# Altium schematic symbol library SCH - POWER - LINEAR VREG - TI LP2980-ADJDBV.SchLib: 1 symbol
Pins are listed as number, name and electrical type; pins without a type are passive.

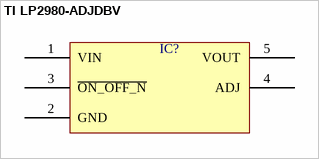
[diagram p0: symbol TI LP2980-ADJDBV]

## TI LP2980-ADJDBV
designator IC?  (value not drawn)
pins: 1 VIN, 2 GND, 3 ~{ON_OFF_N}, 4 ADJ, 5 VOUT